# EAGLE library part FT245BL (library dl9sec_public)
USB FIFO Single Chip USB - Parallel IC VCC 4,35V..5,25V, max. 1Mbyte/s UHCI/OHCI/EHCI-compatible Compatible with USB1.1 and USB2.0
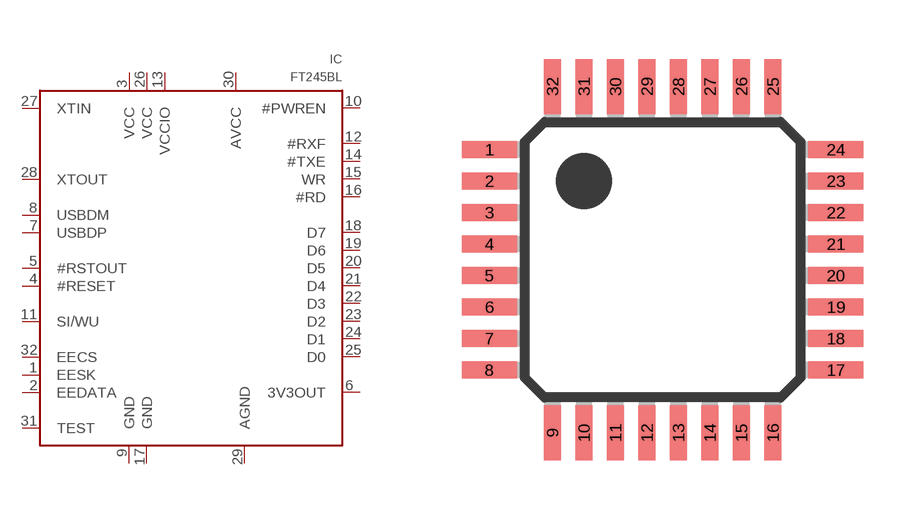
[diagram p14: symbol with the pads of LQFP32; footprint LQFP32]

Designator prefix IC

## FT245BL  [LQFP32]
1  EESK  out
2  EEDATA  out
3  VCC  pwr
4  #RESET  in
5  #RSTOUT  out
6  3V3OUT  pas
7  USBDP
8  USBDM
9  GND  pwr
10  #PWREN  out
11  SI/WU  in
12  #RXF  oc
13  VCCIO  pwr
14  #TXE  oc
15  WR  out
16  #RD  out
17  GND  pwr
18  D7
19  D6
20  D5
21  D4
22  D3
23  D2
24  D1
25  D0
26  VCC  pwr
27  XTIN  pas
28  XTOUT  pas
29  AGND  pwr
30  AVCC  pwr
31  TEST  in
32  EECS  out

## Footprint LQFP32 (pad centres in mm)
LQFP32
smd 1.4 x 0.44: 1 -4.4,2.8; 2 -4.4,2; 3 -4.4,1.2; 4 -4.4,0.4; 5 -4.4,-0.4; 6 -4.4,-1.2; 7 -4.4,-2; 8 -4.4,-2.8; 17 4.4,-2.8; 18 4.4,-2; 19 4.4,-1.2; 20 4.4,-0.4; 21 4.4,0.4; 22 4.4,1.2; 23 4.4,2; 24 4.4,2.8
smd 0.44 x 1.4: 9 -2.8,-4.4; 10 -2,-4.4; 11 -1.2,-4.4; 12 -0.4,-4.4; 13 0.4,-4.4; 14 1.2,-4.4; 15 2,-4.4; 16 2.8,-4.4; 25 2.8,4.4; 26 2,4.4; 27 1.2,4.4; 28 0.4,4.4; 29 -0.4,4.4; 30 -1.2,4.4; 31 -2,4.4; 32 -2.8,4.4